# Altium footprint library 691 307 500 0xx.PcbLib: 6 footprints
Each footprint in its own frame and in the unit in brackets; x right, y up, seen from the top. Pads: shape width x height; smd on the part's side, far side on the other; paste and mask are expansions set on the pad; w line width, h text height; cw(c..) or ccw(c..) is an arc to the next point about the centre after c.
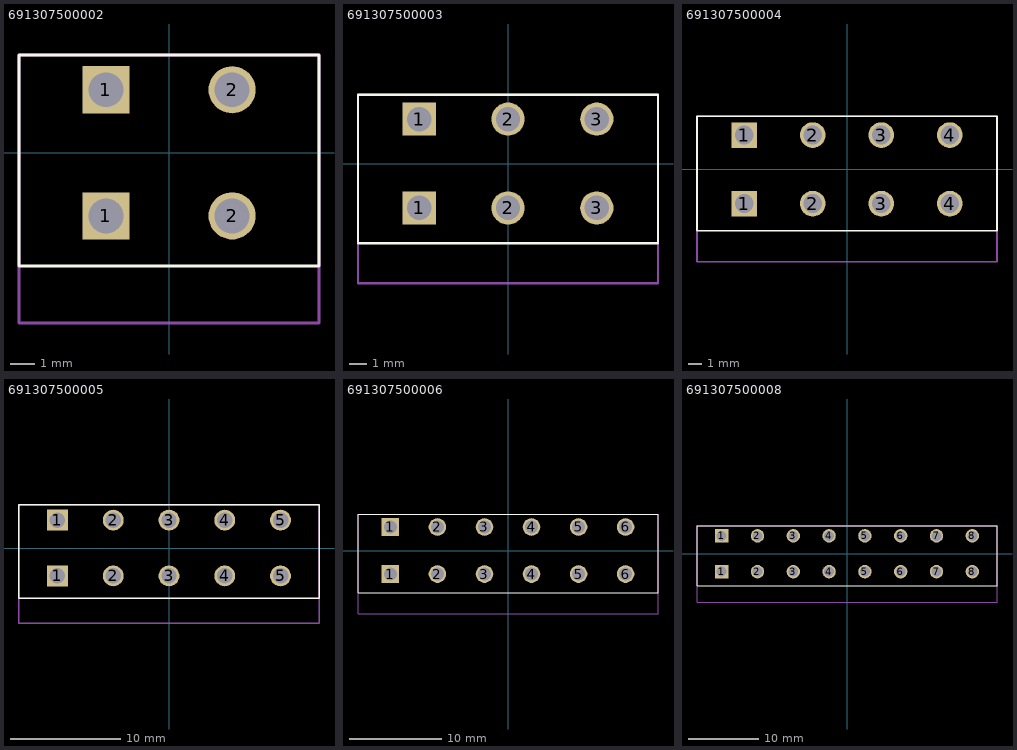
[diagram p0: the footprints below, top view; thin cyan lines are the x and y axes]

## 691307500002 [mm] "5.08 mm Reversed Gender Vertical PCB Header - 02p"
height 19
pads (4):
  rect 1.9x1.9 hole 1.4: 1(-2.54,-2.54) 1(-2.54,2.54)
  round 1.9 hole 1.4: 2(2.54,-2.54) 2(2.54,2.54)
Top Overlay:
  lines w0.127: -6.04,-4.56 6.04,-4.56 6.04,3.94 -6.04,3.94 -6.04,-4.56
Mechanical 13:
  lines w0.127: -6.04,-6.852 -6.04,3.94 6.04,3.94 6.04,-6.852 -6.04,-6.852
3D body: height 19.01, standoff -3.49, extent -6.04,-6.852 6.04,3.94

## 691307500003 [mm] "5.08 mm Reversed Gender Vertical PCB Header - 03p"
height 19
pads (6):
  rect 1.9x1.9 hole 1.4: 1(-5.08,-2.54) 1(-5.08,2.54)
  round 1.9 hole 1.4: 2(0,-2.54) 2(0,2.54) 3(5.08,-2.54) 3(5.08,2.54)
Top Overlay:
  lines w0.127: -8.58,-4.56 8.58,-4.56 8.58,3.94 -8.58,3.94 -8.58,-4.56
Mechanical 13:
  lines w0.127: -8.58,-6.852 -8.58,3.94 8.58,3.94 8.58,-6.852 -8.58,-6.852
3D body: height 19.01, standoff -3.49, extent -8.58,-6.852 8.58,3.94

## 691307500004 [mm] "5.08 mm Reversed Gender Vertical PCB Header - 04p"
height 19
pads (8):
  rect 1.9x1.9 hole 1.4: 1(-7.62,-2.54) 1(-7.62,2.54)
  round 1.9 hole 1.4: 2(-2.54,-2.54) 2(-2.54,2.54) 3(2.54,-2.54) 3(2.54,2.54) 4(7.62,-2.54) 4(7.62,2.54)
Top Overlay:
  lines w0.127: -11.12,-4.56 11.12,-4.56 11.12,3.94 -11.12,3.94 -11.12,-4.56
Mechanical 13:
  lines w0.127: -11.12,-6.852 11.12,-6.852 11.12,3.94 -11.12,3.94 -11.12,-6.852
3D body: height 19.01, standoff -3.49, extent -11.12,-6.852 11.12,3.94

## 691307500005 [mm] "5.08 mm Reversed Gender Vertical PCB Header - 05p"
height 19
pads (10):
  rect 1.9x1.9 hole 1.4: 1(-10.16,-2.54) 1(-10.16,2.54)
  round 1.9 hole 1.4: 2(-5.08,-2.54) 2(-5.08,2.54) 3(0,-2.54) 3(0,2.54) 4(5.08,-2.54) 4(5.08,2.54) 5(10.16,-2.54) 5(10.16,2.54)
Top Overlay:
  lines w0.127: -13.66,-4.56 -13.66,3.94 13.66,3.94 13.66,-4.56 -13.66,-4.56
Mechanical 13:
  lines w0.127: -13.66,-6.852 -13.66,3.94 13.66,3.94 13.66,-6.852 -13.66,-6.852
3D body: height 19.01, standoff -3.49, extent -13.66,-6.852 13.66,3.94

## 691307500006 [mm] "5.08 mm Reversed Gender Vertical PCB Header - 06p"
height 19
pads (12):
  rect 1.9x1.9 hole 1.4: 1(-12.7,-2.54) 1(-12.7,2.54)
  round 1.9 hole 1.4: 2(-7.62,-2.54) 2(-7.62,2.54) 3(-2.54,-2.54) 3(-2.54,2.54) 4(2.54,-2.54) 4(2.54,2.54) 5(7.62,-2.54) 5(7.62,2.54) 6(12.7,-2.54) 6(12.7,2.54)
Top Overlay:
  lines w0.127: -16.2,-4.56 -16.2,3.94 16.2,3.94 16.2,-4.56 -16.2,-4.56
Mechanical 13:
  lines w0.127: -16.2,-6.852 16.2,-6.852 16.2,3.94 -16.2,3.94 -16.2,-6.852
3D body: height 19.01, standoff -3.49, extent -16.2,-6.852 16.2,3.94

## 691307500008 [mm] "5.08 mm Reversed Gender Vertical PCB Header - 08p"
height 19
pads (16):
  rect 1.9x1.9 hole 1.4: 1(-17.78,-2.54) 1(-17.78,2.54)
  round 1.9 hole 1.4: 2(-12.7,-2.54) 2(-12.7,2.54) 3(-7.62,-2.54) 3(-7.62,2.54) 4(-2.54,-2.54) 4(-2.54,2.54) 5(2.54,-2.54) 5(2.54,2.54) 6(7.62,-2.54) 6(7.62,2.54) 7(12.7,-2.54) 7(12.7,2.54) 8(17.78,-2.54) 8(17.78,2.54)
Top Overlay:
  lines w0.127: -21.28,-4.56 -21.28,3.94 21.28,3.94 21.28,-4.56 -21.28,-4.56
Mechanical 13:
  lines w0.127: -21.28,-6.852 -21.28,3.94 21.28,3.94 21.28,-6.852 -21.28,-6.852
3D body: height 19.01, standoff -3.49, extent -21.28,-6.852 21.28,3.94